# Altium footprint library PCB - LEADLESS - BGA - ST WLCSP 2.6x2.6x0.5.PCBLIB: 1 footprints
Each footprint in its own frame and in the unit in brackets; x right, y up, seen from the top. Pads: shape width x height; smd on the part's side, far side on the other; paste and mask are expansions set on the pad; w line width, h text height; cw(c..) or ccw(c..) is an arc to the next point about the centre after c.
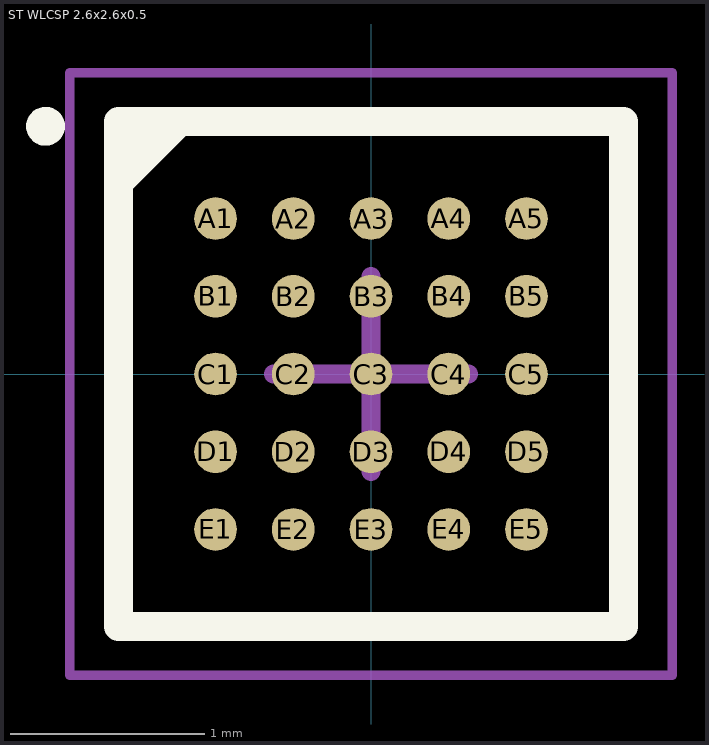
[diagram p0: the footprint, top view; thin cyan lines are the x and y axes]

## ST WLCSP 2.6x2.6x0.5 [mm] "WLCSP, 25-Leads, Body 2.59x2.59mmx0.54mm, Pitch 0.40mm"
height 0.55
pads (25):
  round 0.22 smd: A1(-0.8,0.8) A2(-0.4,0.8) A3(0,0.8) A4(0.4,0.8) A5(0.8,0.8) B1(-0.8,0.4) B2(-0.4,0.4) B3(0,0.4) B4(0.4,0.4) B5(0.8,0.4) C1(-0.8,0) C2(-0.4,0) C3(0,0) C4(0.4,0) C5(0.8,0) D1(-0.8,-0.4) D2(-0.4,-0.4) D3(0,-0.4) D4(0.4,-0.4) D5(0.8,-0.4) E1(-0.8,-0.8) E2(-0.4,-0.8) E3(0,-0.8) E4(0.4,-0.8) E5(0.8,-0.8)
Top Overlay:
  circle w0.1: c-1.675,1.275 r0.05
  region: -0.986,1.3 -1.3,0.986 -1.3,1.3
  lines w0.15: -1.3,0.986 -0.986,1.3 ; -1.3,-1.3 1.3,-1.3 1.3,1.3 -1.3,1.3 -1.3,-1.3
Mechanical 13:
  lines w0.1: -1.295,-1.295 1.295,-1.295 1.295,1.295 -1.295,1.295 -1.295,-1.295
Mechanical 15:
  lines w0.05: -1.55,-1.55 1.55,-1.55 1.55,1.55 -1.55,1.55 -1.55,-1.55
  lines w0.1: -0.5,0 0.5,0 ; 0,-0.5 0,0.5
3D body "ST WLCSP 2.6x2.6x0.5.step": height 0.54, standoff 0, extent -1.295,-1.295 1.295,1.295